# Altium footprint library PcbLib1.PcbLib: 1 footprints
Each footprint in its own frame and in the unit in brackets; x right, y up, seen from the top. Pads: shape width x height; smd on the part's side, far side on the other; paste and mask are expansions set on the pad; w line width, h text height; cw(c..) or ccw(c..) is an arc to the next point about the centre after c.
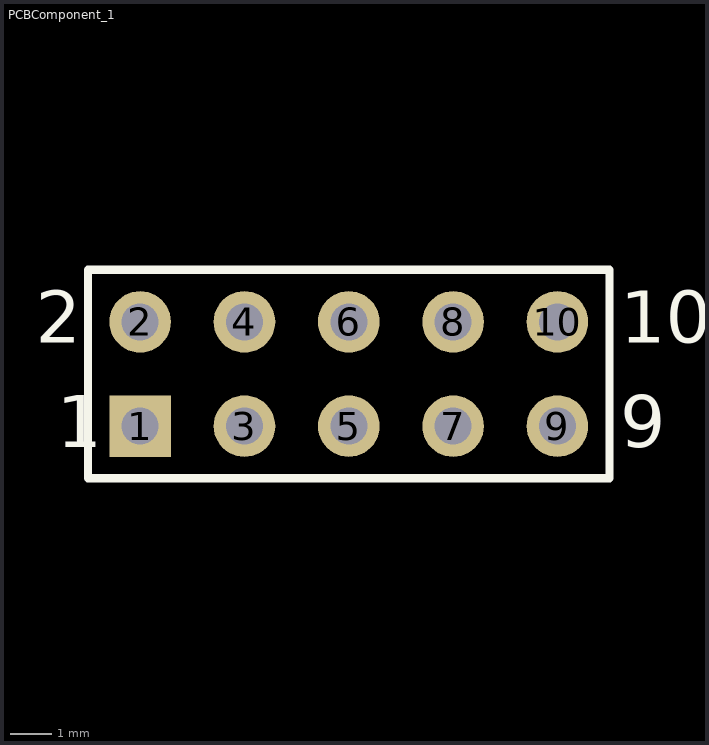
[diagram p0: the footprint, top view; thin cyan lines are the x and y axes]

## PCBComponent_1 [mm]
pads (10):
  rect 1.5x1.5 hole 0.9: 1(527.431,212.217)
  round 1.5 hole 0.9: 2(527.431,214.757) 3(529.971,212.217) 4(529.971,214.757) 5(532.511,212.217) 6(532.511,214.757) 7(535.051,212.217) 8(535.051,214.757) 9(537.591,212.217) 10(537.591,214.757)
Top Overlay:
  lines w0.2: 526.161,210.947 526.161,216.027 538.861,216.027 538.861,210.947 526.161,210.947
  text "2" at 524.891,214.249 h1.27
  text "1" at 525.399,211.709 h1.27
  text "9" at 539.115,211.709 h1.27
  text "10" at 539.115,214.249 h1.27